# EAGLE library part ATMEGA328P (library MyLib)
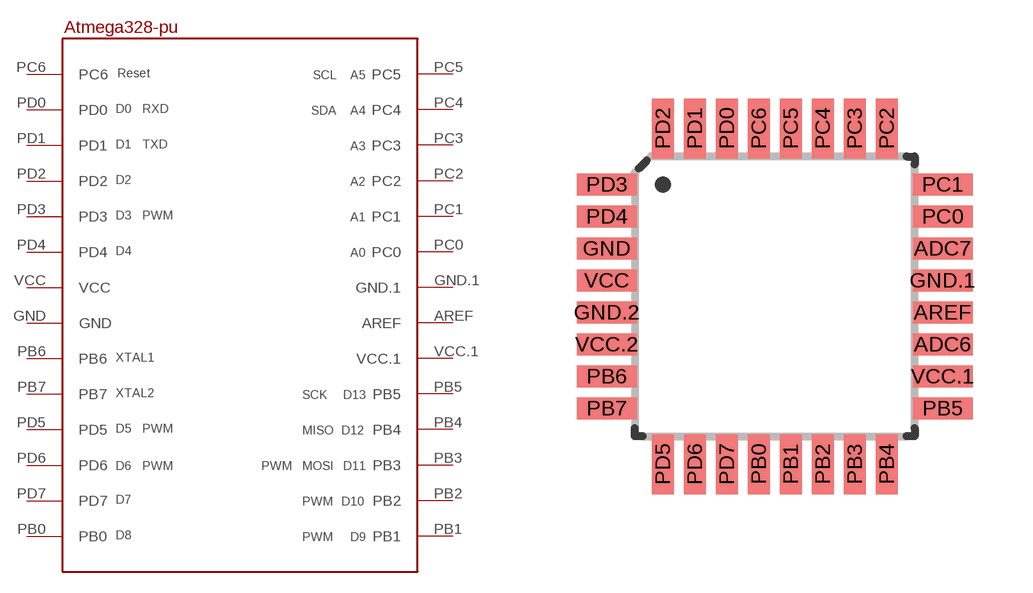
[diagram p1: symbol with the pads of ATMEGA328-AU; footprint ATMEGA328-AU]

Designator prefix -

## ATMEGA328P  [ATMEGA328-AU]
AREF  AREF
GND  GND
GND.1  GND.1
PB0  PB0
PB1  PB1
PB2  PB2
PB3  PB3
PB4  PB4
PB5  PB5
PB6  PB6
PB7  PB7
PC0  PC0
PC1  PC1
PC2  PC2
PC3  PC3
PC4  PC4
PC5  PC5
PC6  PC6
PD0  PD0
PD1  PD1
PD2  PD2
PD3  PD3
PD4  PD4
PD5  PD5
PD6  PD6
PD7  PD7
VCC  VCC
VCC.1  VCC.1

## Footprint ATMEGA328-AU (pad centres in mm)
smd 1.5 x 0.55: ADC6 6.74,-3.74; ADC7 6.74,-1.34; AREF 6.74,-2.94; GND -1.66,-1.34; GND.1 6.74,-2.14; GND.2 -1.66,-2.94; PB5 6.74,-5.34; PB6 -1.66,-4.54; PB7 -1.66,-5.34; PC0 6.74,-0.54; PC1 6.74,0.26; PD3 -1.66,0.26; PD4 -1.66,-0.54; VCC -1.66,-2.14; VCC.1 6.74,-4.54; VCC.2 -1.66,-3.74
smd 0.55 x 1.5: PB0 2.14,-6.74; PB1 2.94,-6.74; PB2 3.74,-6.74; PB3 4.54,-6.74; PB4 5.34,-6.74; PC2 5.34,1.66; PC3 4.54,1.66; PC4 3.74,1.66; PC5 2.94,1.66; PC6 2.14,1.66; PD0 1.34,1.66; PD1 0.54,1.66; PD2 -0.26,1.66; PD5 -0.26,-6.74; PD6 0.54,-6.74; PD7 1.34,-6.74